# EAGLE library part NC7SZ27 (library rs41)
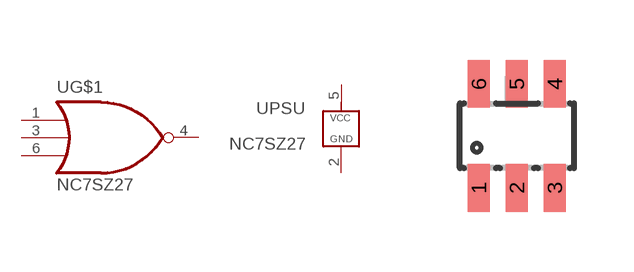
[diagram p11: symbol with the pads of SOT23-6; footprint SOT23-6]

Designator prefix -; gates G$1=3NOR PSU=PSU

## NC7SZ27 (DATASHEET: https://www.onsemi.com/pdf/datasheet/nc7sz27-d.pdf)  [SOT23-6]
1  G$1:A
2  PSU:GND
3  G$1:B
4  G$1:Y  out
5  PSU:VCC
6  G$1:C

## Footprint SOT23-6 (pad centres in mm)
smd 0.55 x 1.2: 1 -0.95,-1.3; 2 0,-1.3; 3 0.95,-1.3; 4 0.95,1.3; 5 0,1.3; 6 -0.95,1.3